# EAGLE library part SFV24R-2STE1HLF (library SFV24R-2STE1HLF)
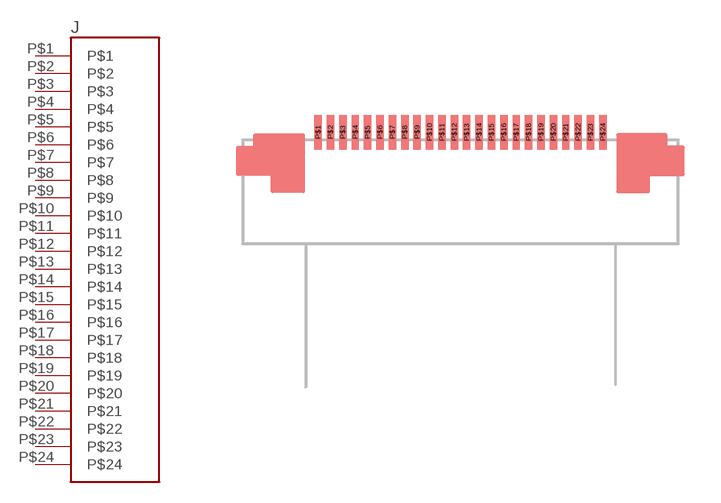
[diagram p0: symbol with the pads of SFV24R-2STE1HLF; footprint SFV24R-2STE1HLF]

Designator prefix J

## SFV24R-2STE1HLF  [SFV24R-2STE1HLF]
P$1  P$1
P$2  P$2
P$3  P$3
P$4  P$4
P$5  P$5
P$6  P$6
P$7  P$7
P$8  P$8
P$9  P$9
P$10  P$10
P$11  P$11
P$12  P$12
P$13  P$13
P$14  P$14
P$15  P$15
P$16  P$16
P$17  P$17
P$18  P$18
P$19  P$19
P$20  P$20
P$21  P$21
P$22  P$22
P$23  P$23
P$24  P$24

## Footprint SFV24R-2STE1HLF (pad centres in mm)
smd 0.3 x 1.4: P$1 -5.75,0; P$2 -5.25,0; P$3 -4.75,0; P$4 -4.25,0; P$5 -3.75,0; P$6 -3.25,0; P$7 -2.75,0; P$8 -2.25,0; P$9 -1.75,0; P$10 -1.25,0; P$11 -0.75,0; P$12 -0.25,0; P$13 0.25,0; P$14 0.75,0; P$15 1.25,0; P$16 1.75,0; P$17 2.25,0; P$18 2.75,0; P$19 3.25,0; P$20 3.75,0; P$21 4.25,0; P$22 4.75,0; P$23 5.25,0; P$24 5.75,0